# Altium schematic symbol library Embedded.SchLib: 9 symbols
Pins are listed as number, name and electrical type; pins without a type are passive.

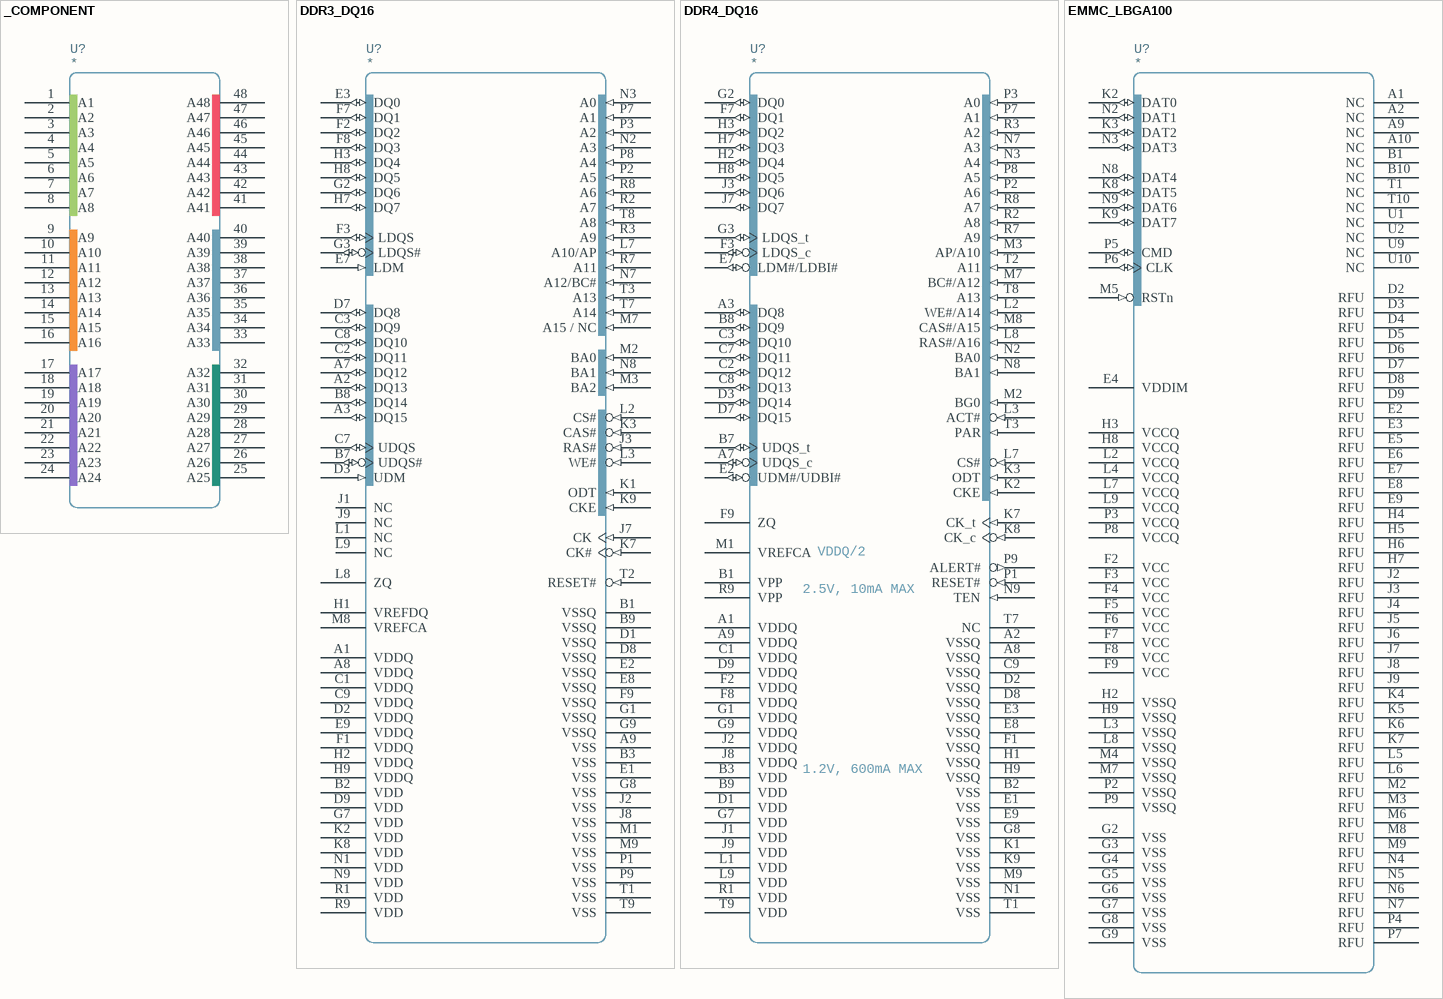
[diagram p0: symbols _COMPONENT to EMMC_LBGA100]

## _COMPONENT
designator U?
pins: 1 A1, 2 A2, 3 A3, 4 A4, 5 A5, 6 A6, 7 A7, 8 A8, 9 A9, 10 A10, 11 A11, 12 A12, 13 A13, 14 A14, 15 A15, 16 A16, 17 A17, 18 A18, 19 A19, 20 A20, 21 A21, 22 A22, 23 A23, 24 A24, 25 A25, 26 A26, 27 A27, 28 A28, 29 A29, 30 A30, 31 A31, 32 A32, 33 A33, 34 A34, 35 A35, 36 A36, 37 A37, 38 A38, 39 A39, 40 A40, 41 A41, 42 A42, 43 A43, 44 A44, 45 A45, 46 A46, 47 A47, 48 A48

## DDR3_DQ16
designator U?
DDR3 SDRAM 16-bit DQ
pins: A1 VDDQ, A2 DQ13 (io) "Data input/output", A3 DQ15 (io) "Data input/output", A7 DQ12 (io) "Data input/output", A8 VDDQ, A9 VSS, B1 VSSQ, B2 VDD, B3 VSS, B7 UDQS# (io) "Data strobe", B8 DQ14 (io) "Data input/output", B9 VSSQ, C1 VDDQ, C2 DQ11 (io) "Data input/output", C3 DQ9 (io) "Data input/output", C7 UDQS (io) "Data strobe", C8 DQ10 (io) "Data input/output", C9 VDDQ, D1 VSSQ, D2 VDDQ, D3 UDM (in) "Input data mask", D7 DQ8 (io) "Data input/output", D8 VSSQ, D9 VDD, E1 VSS, E2 VSSQ, E3 DQ0 (io) "Data input/output", E7 LDM (in) "Input data mask", E8 VSSQ, E9 VDDQ, F1 VDDQ, F2 DQ2 (io) "Data input/output", F3 LDQS (io) "Data strobe", F7 DQ1 (io) "Data input/output", F8 DQ3 (io) "Data input/output", F9 VSSQ, G1 VSSQ, G2 DQ6 (io) "Data input/output", G3 LDQS# (io) "Data strobe", G7 VDD, G8 VSS, G9 VSSQ, H1 VREFDQ, H2 VDDQ, H3 DQ4 (io) "Data input/output", H7 DQ7 (io) "Data input/output", H8 DQ5 (io) "Data input/output", H9 VDDQ, J1 NC, J2 VSS, J3 RAS# (in) "Command inputs", J7 CK (in) "Clock", J8 VSS, J9 NC, K1 ODT (in) "On-die termination", K2 VDD, K3 CAS# (in) "Command inputs", K7 CK# (in) "Clock", K8 VDD, K9 CKE (in) "Clock enable", L1 NC, L2 CS# (in) "Chip select", L3 WE# (in) "Command inputs", L7 A10/AP (in) "Address inputs", L8 ZQ "External reference ball for output drive calibration", L9 NC, M1 VSS, M2 BA0 (in) "Bank address inputs", M3 BA2 (in) "Bank address inputs", M7 A15 / NC (in), M8 VREFCA, M9 VSS, N1 VDD, N2 A3 (in) "Address inputs", N3 A0 (in) "Address inputs", N7 A12/BC# (in) "Address inputs", N8 BA1 (in) "Bank address inputs", N9 VDD, P1 VSS, P2 A5 (in) "Address inputs", P3 A2 (in) "Address inputs", P7 A1 (in) "Address inputs", P8 A4 (in) "Address inputs", P9 VSS, R1 VDD, R2 A7 (in) "Address inputs", R3 A9 (in) "Address inputs", R7 A11 (in) "Address inputs", R8 A6 (in) "Address inputs", R9 VDD, T1 VSS, T2 RESET# (in) "Reset", T3 A13 (in) "Address inputs", T7 A14 (in) "Address inputs", T8 A8 (in) "Address inputs", T9 VSS

## DDR4_DQ16
designator U?
DDR4 SDRAM 16-bit DQ
pins: A1 VDDQ "DQ power supply: 1.2V ±0.060V.", A2 VSSQ, A3 DQ8 (io), A7 UDQS_c (io), A8 VSSQ, A9 VDDQ "DQ power supply: 1.2V ±0.060V.", B1 VPP "DRAM activating power supply: 2.5V –0.125V/+0.250V.", B2 VSS, B3 VDD "Power supply: 1.2V ±0.060V.", B7 UDQS_t (io), B8 DQ9 (io), B9 VDD "Power supply: 1.2V ±0.060V.", C1 VDDQ "DQ power supply: 1.2V ±0.060V.", C2 DQ12 (io), C3 DQ10 (io), C7 DQ11 (io), C8 DQ13 (io), C9 VSSQ, D1 VDD "Power supply: 1.2V ±0.060V.", D2 VSSQ, D3 DQ14 (io), D7 DQ15 (io), D8 VSSQ, D9 VDDQ "DQ power supply: 1.2V ±0.060V.", E1 VSS, E2 UDM#/UDBI# (io), E3 VSSQ, E7 LDM#/LDBI# (io), E8 VSSQ, E9 VSS, F1 VSSQ, F2 VDDQ "DQ power supply: 1.2V ±0.060V.", F3 LDQS_c (io), F7 DQ1 (io), F8 VDDQ "DQ power supply: 1.2V ±0.060V.", F9 ZQ, G1 VDDQ "DQ power supply: 1.2V ±0.060V.", G2 DQ0 (io), G3 LDQS_t (io), G7 VDD "Power supply: 1.2V ±0.060V.", G8 VSS, G9 VDDQ "DQ power supply: 1.2V ±0.060V.", H1 VSSQ, H2 DQ4 (io), H3 DQ2 (io), H7 DQ3 (io), H8 DQ5 (io), H9 VSSQ, J1 VDD "Power supply: 1.2V ±0.060V.", J2 VDDQ "DQ power supply: 1.2V ±0.060V.", J3 DQ6 (io), J7 DQ7 (io), J8 VDDQ "DQ power supply: 1.2V ±0.060V.", J9 VDD "Power supply: 1.2V ±0.060V.", K1 VSS, K2 CKE (in), K3 ODT (in), K7 CK_t (in), K8 CK_c (in), K9 VSS, L1 VDD "Power supply: 1.2V ±0.060V.", L2 WE#/A14 (in), L3 ACT# (in), L7 CS# (in), L8 RAS#/A16 (in), L9 VDD "Power supply: 1.2V ±0.060V.", M1 VREFCA, M2 BG0 (in), M3 AP/A10 (in), M7 BC#/A12 (in), M8 CAS#/A15 (in), M9 VSS, N1 VSS, N2 BA0 (in), N3 A4 (in), N7 A3 (in), N8 BA1 (in), N9 TEN (in), P1 RESET# (in), P2 A6 (in), P3 A0 (in), P7 A1 (in), P8 A5 (in), P9 ALERT# (out), R1 VDD "Power supply: 1.2V ±0.060V.", R2 A8 (in), R3 A2 (in), R7 A9 (in), R8 A7 (in), R9 VPP "DRAM activating power supply: 2.5V –0.125V/+0.250V.", T1 VSS, T2 A11 (in), T3 PAR (in), T7 NC, T8 A13 (in), T9 VDD "Power supply: 1.2V ±0.060V."
text: VDDQ/2; 2.5V, 10mA MAX; 1.2V, 600mA MAX

## EMMC_LBGA100
designator U?
pins: A1 NC, A2 NC, A9 NC, A10 NC, B1 NC, B10 NC, D2 RFU, D3 RFU, D4 RFU, D5 RFU, D6 RFU, D7 RFU, D8 RFU, D9 RFU, E2 RFU, E3 RFU, E4 VDDIM, E5 RFU, E6 RFU, E7 RFU, E8 RFU, E9 RFU, F2 VCC, F3 VCC, F4 VCC, F5 VCC, F6 VCC, F7 VCC, F8 VCC, F9 VCC, G2 VSS, G3 VSS, G4 VSS, G5 VSS, G6 VSS, G7 VSS, G8 VSS, G9 VSS, H2 VSSQ, H3 VCCQ, H4 RFU, H5 RFU, H6 RFU, H7 RFU, H8 VCCQ, H9 VSSQ, J2 RFU, J3 RFU, J4 RFU, J5 RFU, J6 RFU, J7 RFU, J8 RFU, J9 RFU, K2 DAT0 (io), K3 DAT2 (io), K4 RFU, K5 RFU, K6 RFU, K7 RFU, K8 DAT5 (io), K9 DAT7 (io), L2 VCCQ, L3 VSSQ, L4 VCCQ, L5 RFU, L6 RFU, L7 VCCQ, L8 VSSQ, L9 VCCQ, M2 RFU, M3 RFU, M4 VSSQ, M5 RSTn (in), M6 RFU, M7 VSSQ, M8 RFU, M9 RFU, N2 DAT1 (io), N3 DAT3 (io), N4 RFU, N5 RFU, N6 RFU, N7 RFU, N8 DAT4 (io), N9 DAT6 (io), P2 VSSQ, P3 VCCQ, P4 RFU, P5 CMD (io), P6 CLK (io), P7 RFU, P8 VCCQ, P9 VSSQ, T1 NC, T10 NC, U1 NC, U2 NC, U9 NC, U10 NC

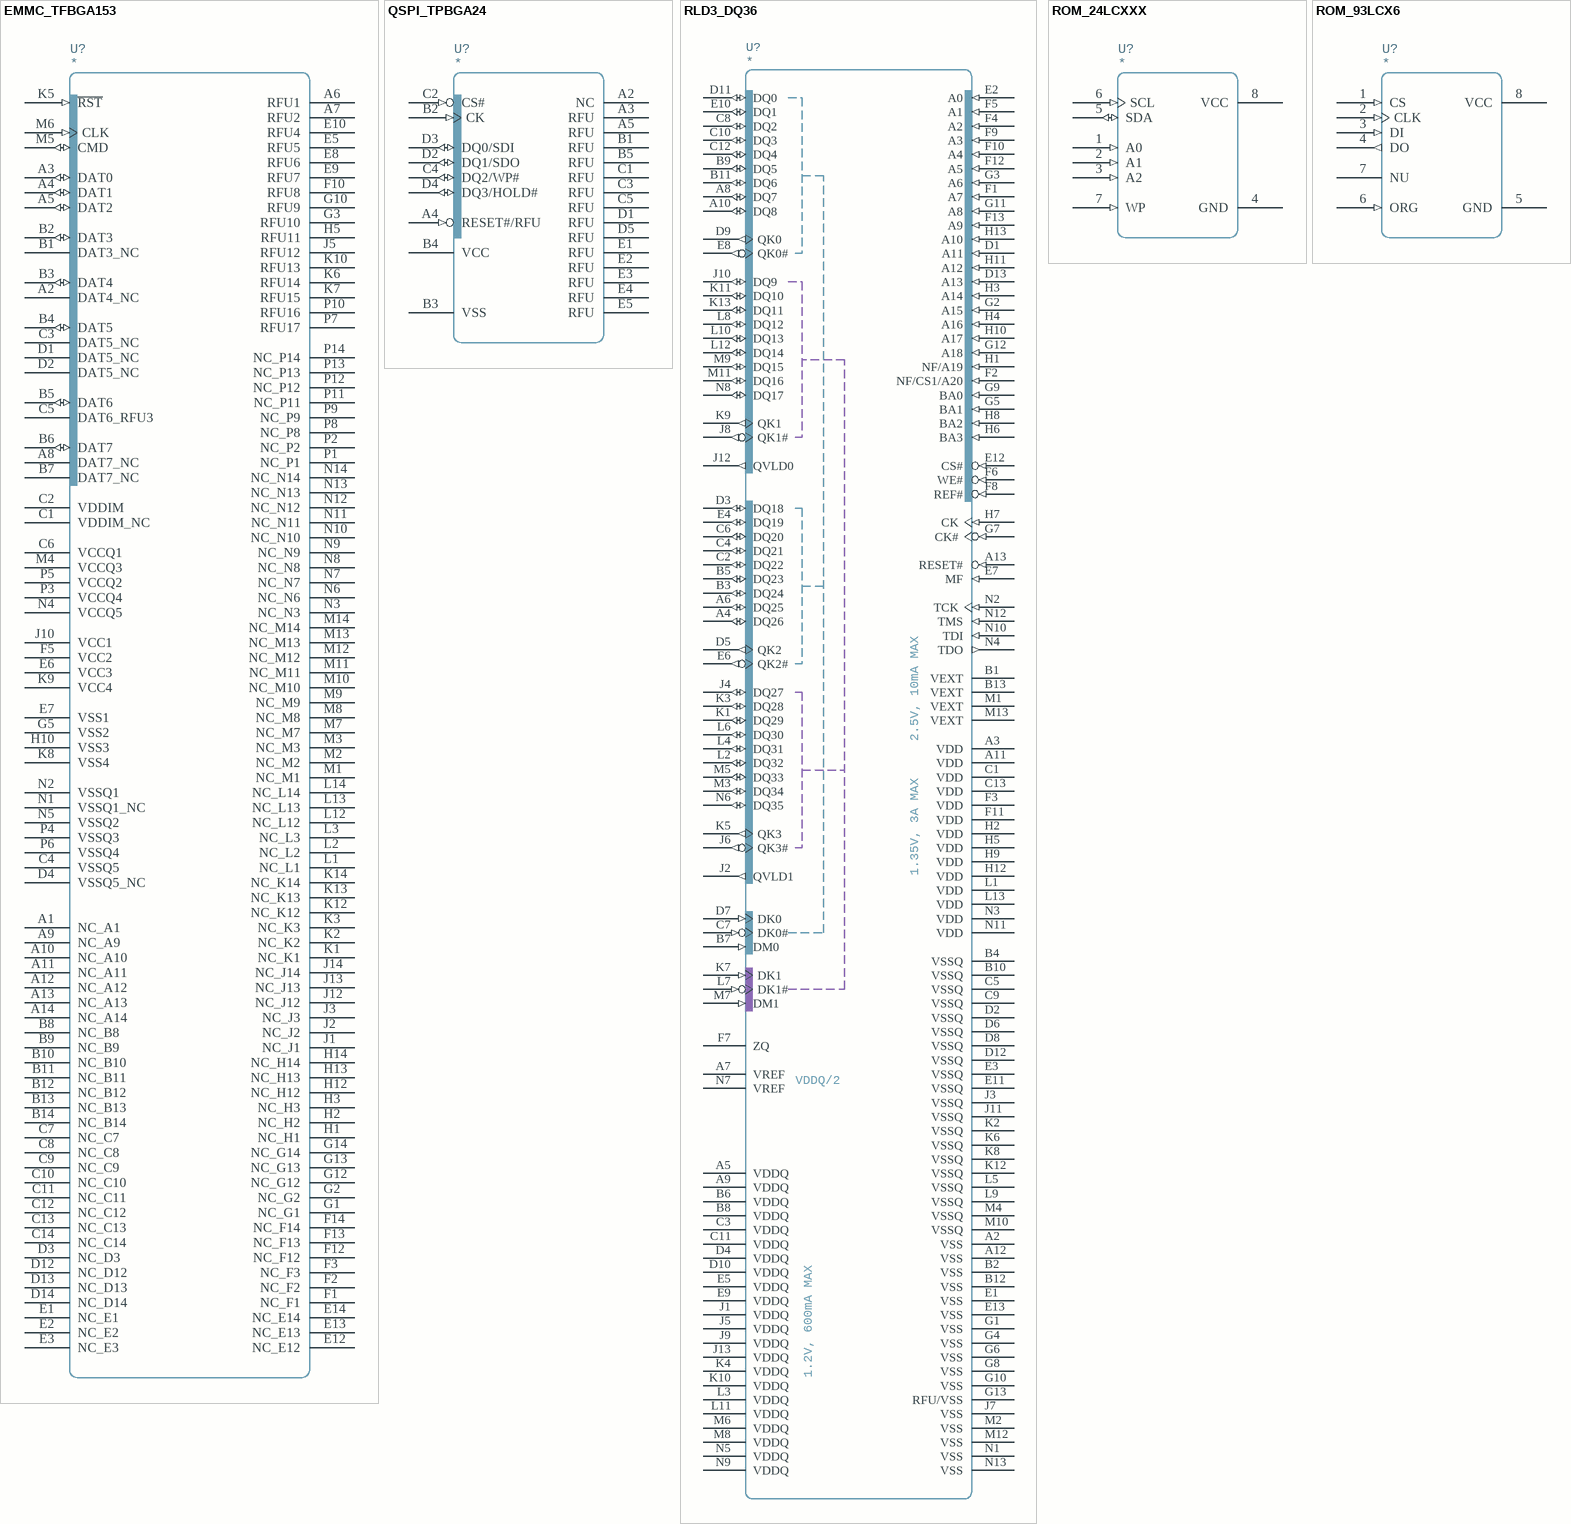
[diagram p1: symbols EMMC_TFBGA153 to ROM_93LCX6]

## EMMC_TFBGA153
designator U?
pins: A1 NC_A1, A2 DAT4_NC, A3 DAT0 (io), A4 DAT1 (io), A5 DAT2 (io), A6 RFU1, A7 RFU2, A8 DAT7_NC, A9 NC_A9, A10 NC_A10, A11 NC_A11, A12 NC_A12, A13 NC_A13, A14 NC_A14, B1 DAT3_NC, B2 DAT3 (io), B3 DAT4 (io), B4 DAT5 (io), B5 DAT6 (io), B6 DAT7 (io), B7 DAT7_NC, B8 NC_B8, B9 NC_B9, B10 NC_B10, B11 NC_B11, B12 NC_B12, B13 NC_B13, B14 NC_B14, C1 VDDIM_NC, C2 VDDIM (power), C3 DAT5_NC, C4 VSSQ5 (power), C5 DAT6_RFU3, C6 VCCQ1 (power), C7 NC_C7, C8 NC_C8, C9 NC_C9, C10 NC_C10, C11 NC_C11, C12 NC_C12, C13 NC_C13, C14 NC_C14, D1 DAT5_NC, D2 DAT5_NC, D3 NC_D3, D4 VSSQ5_NC, D12 NC_D12, D13 NC_D13, D14 NC_D14, E1 NC_E1, E2 NC_E2, E3 NC_E3, E5 RFU5, E6 VCC3 (power), E7 VSS1 (power), E8 RFU6, E9 RFU7, E10 RFU4, E12 NC_E12, E13 NC_E13, E14 NC_E14, F1 NC_F1, F2 NC_F2, F3 NC_F3, F5 VCC2 (power), F10 RFU8, F12 NC_F12, F13 NC_F13, F14 NC_F14, G1 NC_G1, G2 NC_G2, G3 RFU10, G5 VSS2 (power), G10 RFU9, G12 NC_G12, G13 NC_G13, G14 NC_G14, H1 NC_H1, H2 NC_H2, H3 NC_H3, H5 RFU11, H10 VSS3 (power), H12 NC_H12, H13 NC_H13, H14 NC_H14, J1 NC_J1, J2 NC_J2, J3 NC_J3, J5 RFU12, J10 VCC1 (power), J12 NC_J12, J13 NC_J13, J14 NC_J14, K1 NC_K1, K2 NC_K2, K3 NC_K3, K5 ~{RST} (in), K6 RFU14, K7 RFU15, K8 VSS4 (power), K9 VCC4 (power), K10 RFU13, K12 NC_K12, K13 NC_K13, K14 NC_K14, L1 NC_L1, L2 NC_L2, L3 NC_L3, L12 NC_L12, L13 NC_L13, L14 NC_L14, M1 NC_M1, M2 NC_M2, M3 NC_M3, M4 VCCQ3 (power), M5 CMD (io), M6 CLK (in), M7 NC_M7, M8 NC_M8, M9 NC_M9, M10 NC_M10, M11 NC_M11, M12 NC_M12, M13 NC_M13, M14 NC_M14, N1 VSSQ1_NC, N2 VSSQ1 (power), N3 NC_N3, N4 VCCQ5 (power), N5 VSSQ2 (power), N6 NC_N6, N7 NC_N7, N8 NC_N8, N9 NC_N9, N10 NC_N10, N11 NC_N11, N12 NC_N12, N13 NC_N13, N14 NC_N14, P1 NC_P1, P2 NC_P2, P3 VCCQ4 (power), P4 VSSQ3 (power), P5 VCCQ2 (power), P6 VSSQ4 (power), P7 RFU17, P8 NC_P8, P9 NC_P9, P10 RFU16, P11 NC_P11, P12 NC_P12, P13 NC_P13, P14 NC_P14

## QSPI_TPBGA24
designator U?
pins: A2 NC, A3 RFU, A4 RESET#/RFU (in), A5 RFU, B1 RFU, B2 CK (in), B3 VSS, B4 VCC, B5 RFU, C1 RFU, C2 CS# (in), C3 RFU, C4 DQ2/WP# (io), C5 RFU, D1 RFU, D2 DQ1/SDO (io), D3 DQ0/SDI (io), D4 DQ3/HOLD# (io), D5 RFU, E1 RFU, E2 RFU, E3 RFU, E4 RFU, E5 RFU

## RLD3_DQ36
designator U?
RLDRAM3 36-bit DQ
pins: A2 VSS, A3 VDD, A4 DQ26 (io), A5 VDDQ, A6 DQ25 (io), A7 VREF, A8 DQ7 (io), A9 VDDQ, A10 DQ8 (io), A11 VDD, A12 VSS, A13 RESET# (in), B1 VEXT, B2 VSS, B3 DQ24 (io), B4 VSSQ, B5 DQ23 (io), B6 VDDQ, B7 DM0 (in), B8 VDDQ, B9 DQ5 (io), B10 VSSQ, B11 DQ6 (io), B12 VSS, B13 VEXT, C1 VDD, C2 DQ22 (io), C3 VDDQ, C4 DQ21 (io), C5 VSSQ, C6 DQ20 (io), C7 DK0# (in), C8 DQ2 (io), C9 VSSQ, C10 DQ3 (io), C11 VDDQ, C12 DQ4 (io), C13 VDD, D1 A11 (in), D2 VSSQ, D3 DQ18 (io), D4 VDDQ, D5 QK2 (out), D6 VSSQ, D7 DK0 (in), D8 VSSQ, D9 QK0 (out), D10 VDDQ, D11 DQ0 (io), D12 VSSQ, D13 A13 (in), E1 VSS, E2 A0 (in), E3 VSSQ, E4 DQ19 (io), E5 VDDQ, E6 QK2# (out), E7 MF (in), E8 QK0# (out), E9 VDDQ, E10 DQ1 (io), E11 VSSQ, E12 CS# (in), E13 VSS, F1 A7 (in), F2 NF/CS1/A20 (in), F3 VDD, F4 A2 (in), F5 A1 (in), F6 WE# (in), F7 ZQ, F8 REF# (in), F9 A3 (in), F10 A4 (in), F11 VDD, F12 A5 (in), F13 A9 (in), G1 VSS, G2 A15 (in), G3 A6 (in), G4 VSS, G5 BA1 (in), G6 VSS, G7 CK# (in), G8 VSS, G9 BA0 (in), G10 VSS, G11 A8 (in), G12 A18 (in), G13 RFU/VSS, H1 NF/A19 (in), H2 VDD, H3 A14 (in), H4 A16 (in), H5 VDD, H6 BA3 (in), H7 CK (in), H8 BA2 (in), H9 VDD, H10 A17 (in), H11 A12 (in), H12 VDD, H13 A10 (in), J1 VDDQ, J2 QVLD1 (out), J3 VSSQ, J4 DQ27 (io), J5 VDDQ, J6 QK3# (out), J7 VSS, J8 QK1# (out), J9 VDDQ, J10 DQ9 (io), J11 VSSQ, J12 QVLD0 (out), J13 VDDQ, K1 DQ29 (io), K2 VSSQ, K3 DQ28 (io), K4 VDDQ, K5 QK3 (out), K6 VSSQ, K7 DK1 (in), K8 VSSQ, K9 QK1 (out), K10 VDDQ, K11 DQ10 (io), K12 VSSQ, K13 DQ11 (io), L1 VDD, L2 DQ32 (io), L3 VDDQ, L4 DQ31 (io), L5 VSSQ, L6 DQ30 (io), L7 DK1# (in), L8 DQ12 (io), L9 VSSQ, L10 DQ13 (io), L11 VDDQ, L12 DQ14 (io), L13 VDD, M1 VEXT, M2 VSS, M3 DQ34 (io), M4 VSSQ, M5 DQ33 (io), M6 VDDQ, M7 DM1 (in), M8 VDDQ, M9 DQ15 (io), M10 VSSQ, M11 DQ16 (io), M12 VSS, M13 VEXT, N1 VSS, N2 TCK (in), N3 VDD, N4 TDO (out), N5 VDDQ, N6 DQ35 (io), N7 VREF, N8 DQ17 (io), N9 VDDQ, N10 TDI (in), N11 VDD, N12 TMS (in), N13 VSS
text: 2.5V, 10mA MAX; 1.35V, 3A MAX; VDDQ/2; 1.2V, 600mA MAX

## ROM_24LCXXX
designator U?
pins: 1 A0 (in), 2 A1 (in), 3 A2 (in), 4 GND (power), 5 SDA (io), 6 SCL (in), 7 WP (in), 8 VCC (power)

## ROM_93LCX6
designator U?
pins: 1 CS (in), 2 CLK (in), 3 DI (in), 4 DO (out), 5 GND (power), 6 ORG (in), 7 NU, 8 VCC (power)